# Altium schematic symbol library flatsat_platform_2.SchLib: 104 symbols (part 2 of 2)
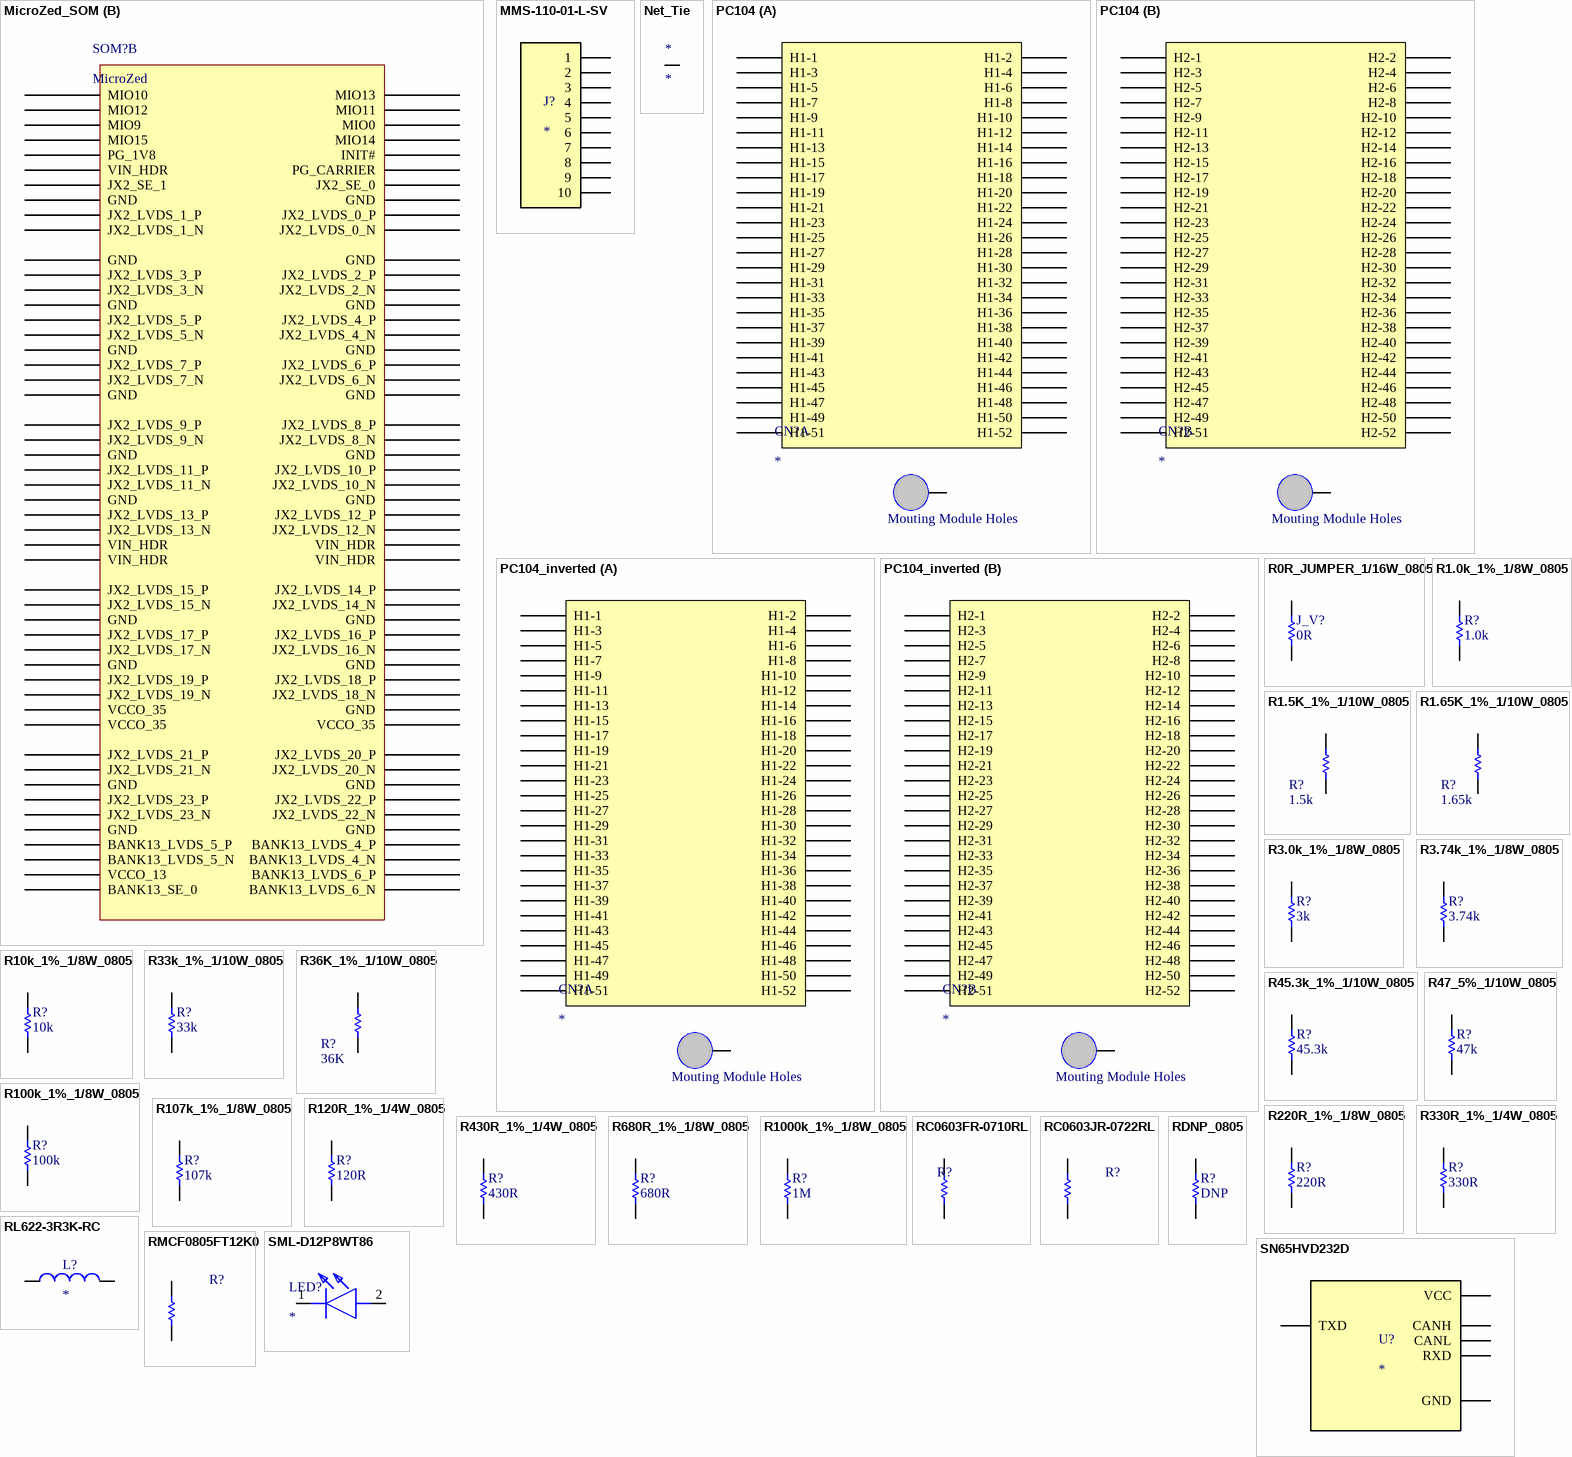
[diagram p4: symbols MicroZed_SOM to SN65HVD232D]

## RC0603JR-0722RL
designator R?, comment 22R  (value not drawn)
YAGEO - RC0603JR-0722RL - SMD Chip Resistor, 0603 [1608 Metric], 22 ohm, RC Series, 50 V, Thick Film, 100 mW; Tolerance: 5%; Temperature Coefficient: 100ppm/°C; Voltage Rating (DC): 50V; Power Rating: 100mW; Supplier 1: Digi-Key; Supplier Part Number 1: 311-22GRCT-ND; Manufacturer: Yageo; Stock 1: 2449692; Pricing 1: 1=0.1, 10=0.019, 100=0.0077, 1000=0.00347, 2500=0.00301 (USD); Case/Package: 0603; Number of Pins: 2; Case Code (Imperial): 0603; Case Code (Metric): 1608; Min Operating Temperature: -55°C; Max Operating Temperature: 155°C; Composition: Thick Film; Packaging: Tape and Reel; Voltage Rating: 50V; Termination: SMD/SMT; Military Standard: Not; Length: 1.6mm; Width: 0.8mm; Depth: 0.8mm; REACH SVHC: No SVHC; Lead Free: Lead Free; ComponentLink1URL: https://www.verical.com/server-webapp/html/getDatasheet?partID=493085&src-supplier=Verical; ComponentLink1Description: https://www.verical.com/server-webapp/html/getDatasheet?partID=493085&src-supplier=Verical; ComponentLink2URL: http://www.farnell.com/datasheets/1868787.pdf?src-supplier=Element14; ComponentLink2Description: http://www.farnell.com/datasheets/1868787.pdf?src-supplier=Element14; ComponentLink3URL: http://www.farnell.com/datasheets/443971.pdf?src-supplier=Element14; ComponentLink3Description: http://www.farnell.com/datasheets/443971.pdf?src-supplier=Element14; Supplier 2: Mouser; Supplier Part Number 2: 603-RC0603JR-0722RL; Stock 2: 139526; Pricing 2: 1=0.1, 10=0.015, 100=0.005, 1000=0.004, 5000=0.004, 10000=0.004 (USD); Manufacturer Part Number: RC0603JR-0722RL
footprint R0603_MD (Chip Resistor, Body 1.6x0.8mm, IPC Medium Density)
pins: 1, 2

## RDNP_0805
designator R?, comment DNP
RES DNP 0805; NCM: 8533.21.20
footprint 0805
pins: 1, 2

## RL622-3R3K-RC
designator L?
3.3ÂµH Unshielded Wirewound Inductor 5.5A 25mOhm Max Radial, Vertical Cylinder; Manufacturer Part Number: RL622-3R3K-RC; MF: Bourns; Price: None; Value: *; Package: Radial Bourns - J.W. Miller; Purchase-URL: https://pricing.snapeda.com/search/part/RL622-3R3K-RC/?ref=eda; SnapEDA_Link: https://www.snapeda.com/parts/RL622-3R3K-RC/Bourns/view-part/337281/?ref=snap; Check_prices: https://www.snapeda.com/parts/RL622-3R3K-RC/Bourns/view-part/337281/?ref=eda; Availability: Good
footprint RL622
pins: 1, 2

## RMCF0805FT12K0
designator R?, comment 12K  (value not drawn)
RES 12K OHM 1/8W 1% 0805; Manufacturer: Stackpole Electronics; Manufacturer Part Number: RMCF0805FT12K0; Power Rating: 125mW; Temperature Coefficient: 100ppm/°C; Supplier 1: Digi-Key; Supplier Part Number 1: RMCF0805FT12K0CT-ND; Stock 1: 30304; Pricing 1: 1=0.1, 10=0.026, 100=0.0104, 1000=0.00466, 2500=0.00405 (USD); Mount: Surface Mount; Case/Package: 0805; Case Code (Metric): 2012; Case Code (Imperial): 0805; Contact Plating: Tin,Matte; Min Operating Temperature: -55°C; Max Operating Temperature: 155°C; Packaging: Tape and Reel; Composition: Thick Film; Number of Terminations: 2; Max Power Dissipation: 125mW; Features: Automotive AEC-Q200; Length: 0.079inch; Height: 0.026inch; Width: 0.049inch; Radiation Hardening: No; Lead Free: Lead Free; ComponentLink1URL: https://www.seielect.com/catalog/SEI-RMCF_RMCP.pdf?src-supplier=Avnet; ComponentLink1Description: https://www.seielect.com/catalog/SEI-RMCF_RMCP.pdf?src-supplier=Avnet; ComponentLink2URL: https://www.seielect.com/Catalog/SEI-RMCF_RMCP.pdf?src-supplier=Digi-Key; ComponentLink2Description: https://www.seielect.com/Catalog/SEI-RMCF_RMCP.pdf?src-supplier=Digi-Key; ComponentLink3URL: https://www.seielect.com/catalog/SEI-Packaging.pdf?src-supplier=Digi-Key; ComponentLink3Description: https://www.seielect.com/catalog/SEI-Packaging.pdf?src-supplier=Digi-Key; ComponentLink4URL: http://seielect.com/Catalog/SEI-RMCF_RMCP.pdf?src-supplier=Future+Electronics; ComponentLink4Description: http://seielect.com/Catalog/SEI-RMCF_RMCP.pdf?src-supplier=Future+Electronics; ComponentLink5URL: http://components.arrow.com/part/dataview/40964023S7542466N1174?src-supplier=Arrow; ComponentLink5Description: http://components.arrow.com/part/dataview/40964023S7542466N1174?src-supplier=Arrow; Tolerance: 1%
footprint R0805_MD (Chip Resistor, Body 2.0x1.3mm, IPC Medium Density)
pins: 1, 2

## SML-D12P8WT86
designator LED?
LED; Manufacturer_Name: ROHM Semiconductor; Manufacturer_Part_Number: SML-D12P8WT86; Datasheet Link: https://datasheet.datasheetarchive.com/originals/distributors/Datasheets_SAMA/f235664866caa647598714bb71411137.pdf; Height: 1.5mm; Mouser Part Number: 755-SML-D12P8WT86; Mouser Price/Stock: https://www.mouser.co.uk/ProductDetail/ROHM-Semiconductor/SML-D12P8WT86?qs=4kLU8WoGk0t8lt%252ByV67uRQ%3D%3D; Arrow Part Number: SML-D12P8WT86; Arrow Price/Stock: https://www.arrow.com/en/products/sml-d12p8wt86/rohm-semiconductor
footprint LEDM1620X150N
pins: 1 K, 2 A

## SN65HVD232D
designator U?
3.3 V CAN Transceiver; Manufacturer Part Number: SN65HVD232D; MF: Texas Instruments; Availability: Unavailable; Package: SOIC-8 Texas Instruments; DigiKey-Purchase-URL: https://snapeda.com/shop?store=DigiKey&id=230614; SnapEDA_Link: https://www.snapeda.com/parts/SN65HVD232D/Texas%20Instruments/view-part/230614/?ref=snap; Mouser-Purchase-URL: https://snapeda.com/shop?store=Mouser&id=230614; Value: *; Price: None; Texas_Instruments-Purchase-URL: https://snapeda.com/shop?store=Texas+Instruments&id=230614
footprint SOIC127P599X175-8N
footprint SOIC127P599X175-8N
pins: 1 TXD (power), 2 GND (power), 3 VCC (power), 4 RXD (power), 6 CANL (power), 7 CANH (power)

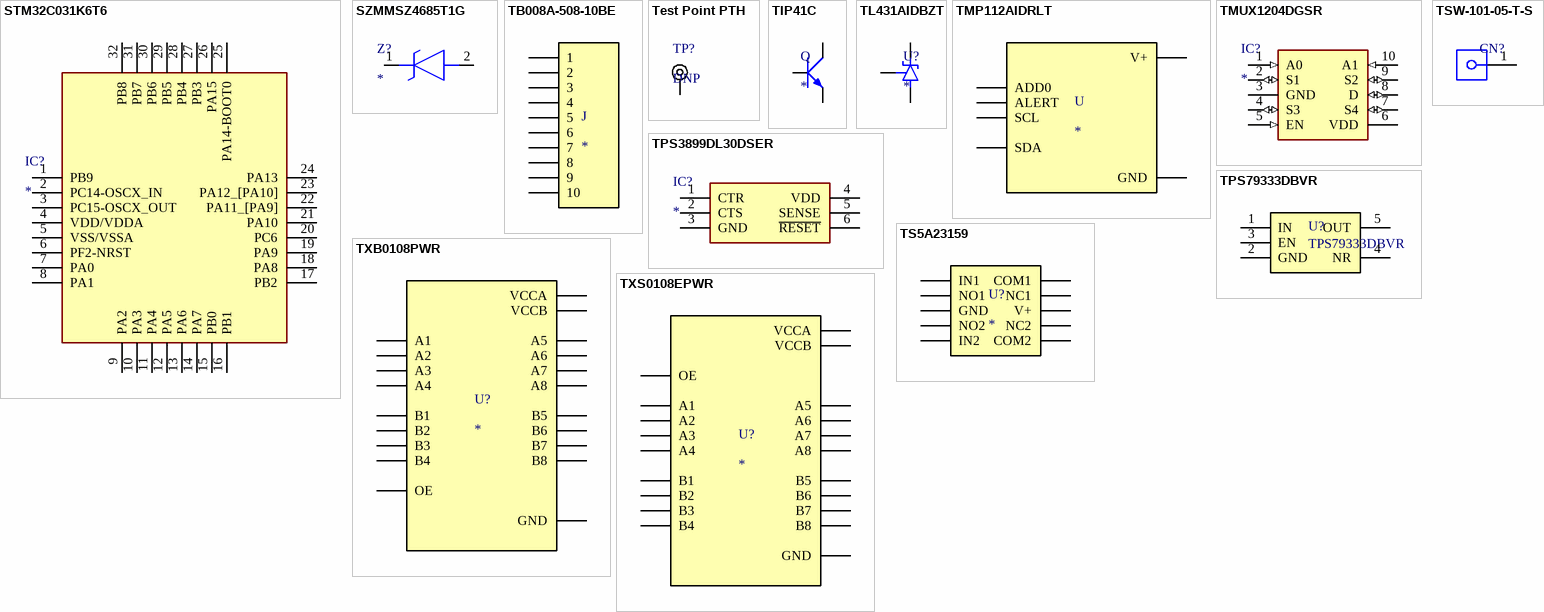
[diagram p3: symbols STM32C031K6T6 to TXS0108EPWR]

## STM32C031K6T6
designator IC?
Integrated Circuit; Manufacturer_Name: STMicroelectronics; Manufacturer_Part_Number: STM32C031K6T6; Datasheet Link: https://www.st.com/resource/en/datasheet/stm32c031c4.pdf; Height: 1.6mm; Mouser Part Number: 511-STM32C031K6T6; Mouser Price/Stock: https://www.mouser.co.uk/ProductDetail/STMicroelectronics/STM32C031K6T6?qs=IPgv5n7u5QYX61LfvY0BQA%3D%3D
footprint QFP80P900X900X160-32N
pins: 1 PB9, 2 PC14-OSCX_IN, 3 PC15-OSCX_OUT, 4 VDD/VDDA, 5 VSS/VSSA, 6 PF2-NRST, 7 PA0, 8 PA1, 9 PA2, 10 PA3, 11 PA4, 12 PA5, 13 PA6, 14 PA7, 15 PB0, 16 PB1, 17 PB2, 18 PA8, 19 PA9, 20 PC6, 21 PA10, 22 PA11_[PA9], 23 PA12_[PA10], 24 PA13, 25 PA14-BOOT0, 26 PA15, 27 PB3, 28 PB4, 29 PB5, 30 PB6, 31 PB7, 32 PB8

## SZMMSZ4685T1G
designator Z?
Zener Diode; Manufacturer_Name: onsemi; Manufacturer_Part_Number: SZMMSZ4685T1G; Datasheet Link: https://www.onsemi.com/pub/Collateral/MMSZ4678T1-D.PDF; Height: 1.35mm; Mouser Part Number: 863-SZMMSZ4685T1G; Mouser Price/Stock: https://www.mouser.co.uk/ProductDetail/onsemi/SZMMSZ4685T1G?qs=PJJcWtbOkNUeP85eYvIOSw%3D%3D; Arrow Part Number: SZMMSZ4685T1G; Arrow Price/Stock: https://www.arrow.com/en/products/szmmsz4685t1g/on-semiconductor
footprint SOD3716X135N
pins: 1 K, 2 A

## TB008A-508-10BE
designator J
2~24 Poles, Screw Type, 45Â°, 5.08 Pitch, 24~12 (AWG), Terminal Block Connector; Manufacturer Part Number: TB008A-508-10BE; MF: CUI Devices; Package: None; Value: *; Price: None; SnapEDA_Link: https://www.snapeda.com/parts/TB008A-508-10BE/CUI%20Devices/view-part/3591367/?ref=snap; Availability: Unavailable
footprint CUI_TB008A-508-10BE
footprint CUI_TB008A-508-10BE
pins: 1, 2, 3, 4, 5, 6, 7, 8, 9, 10

## Test Point PTH
designator TP?, comment DNP  (no BOM)
TEST POINT PAD
footprint TEST POINT PTH
pins: 1

## TIP41C
designator Q
Bipolar _BJT_ Transistor NPN 100V 6A 3MHz 2W Through Hole TO-220-3; Manufacturer Part Number: TIP41C; MF: Central Semiconductor; SnapEDA_Link: https://www.snapeda.com/parts/TIP41C/Central%20Semiconductor%20Corp/view-part/2759871/?ref=snap; Price: None; Availability: Unavailable; Package: TO-220-3 Central Semiconductor; Value: *
footprint TO220AV
pins: B, B, C, E

## TL431AIDBZT
designator U?
Shunt Voltage Reference IC 36V Â±1% SOT-23-3; Manufacturer Part Number: TL431AIDBZT; MF: Texas Instruments; SnapEDA_Link: https://www.snapeda.com/parts/TL431AIDBZT/Texas%20Instruments/view-part/277644/?ref=snap; Package: SOT-23-3 Texas Instruments; Price: None; Value: *; Availability: Unavailable
footprint SOT95P237X112-3N
footprint SOT95P237X112-3N
pins: 1 CATHODE, 2 REF, 3 ANODE

## TMP112AIDRLT
designator U
0.5C 1.4V to 3.6V digital temperature sensor with I2C/SMBus in 2.56mm2 package 6-SOT-5X3 -40 to 125; Manufacturer Part Number: TMP112AIDRLT; MF: Texas Instruments; Texas_Instruments-Purchase-URL: https://snapeda.com/shop?store=Texas+Instruments&id=237309; Price: None; Mouser-Purchase-URL: https://snapeda.com/shop?store=Mouser&id=237309; Availability: Good; Package: SOT-5X3-6 Texas Instruments; SnapEDA_Link: https://www.snapeda.com/parts/TMP112AIDRLT/Texas%20Instruments/view-part/237309/?ref=snap; DigiKey-Purchase-URL: https://snapeda.com/shop?store=DigiKey&id=237309; Value: *
footprint SOT50P160X60-6N
footprint SOT50P160X60-6N
pins: 1 SCL (power), 2 GND (power), 3 ALERT (power), 4 ADD0 (power), 5 V+ (power), 6 SDA (power)

## TMUX1204DGSR
designator IC?
Integrated Circuit; Manufacturer_Name: Texas Instruments; Manufacturer_Part_Number: TMUX1204DGSR; Datasheet Link: http://www.ti.com/lit/gpn/TMUX1204; Height: 1.1mm; Mouser Part Number: 595-TMUX1204DGSR; Mouser Price/Stock: https://www.mouser.co.uk/ProductDetail/Texas-Instruments/TMUX1204DGSR?qs=EBDBlbfErPw42Q0DdvAwUg%3D%3D; Arrow Part Number: TMUX1204DGSR; Arrow Price/Stock: https://www.arrow.com/en/products/tmux1204dgsr/texas-instruments?utm_currency=USD&region=nac
footprint SOP50P490X110-10N
pins: 1 A0 (in), 2 S1 (io), 3 GND (power), 4 S3 (io), 5 EN (in), 6 VDD (power), 7 S4 (io), 8 D (io), 9 S2 (io), 10 A1 (in)

## TPS3899DL30DSER
designator IC?
Integrated Circuit; Manufacturer_Name: Texas Instruments; Manufacturer_Part_Number: TPS3899DL30DSER; Datasheet Link: https://www.ti.com/lit/ds/symlink/tps3899.pdf?ts=1744754683287&ref_url=https%253A%252F%252Fwww.mouser.com%252F; Height: 0.8mm; Mouser Part Number: 595-TPS3899DL30DSER; Mouser Price/Stock: https://www.mouser.co.uk/ProductDetail/Texas-Instruments/TPS3899DL30DSER?qs=pBJMDPsKWf3Gvj4NR5zaDA%3D%3D
footprint TPS3899DL30DSER
pins: 1 CTR, 2 CTS, 3 GND, 4 VDD, 5 SENSE, 6 ~{RESET}

## TPS79333DBVR
designator U?
TEXAS INSTRUMENTS - TPS79333DBVR - IC, V REG, LINEAR, 0.2A, SOT-23-5; Number of Outputs: 1; Output Voltage: 3.3V; Max Power Dissipation: 560mW; Max Output Current: 200mA; Max Input Voltage: 5.5V; Min Input Voltage: 2.7V; Polarity: Positive; Quiescent Current: 200uA; Accuracy: 2%; Output Type: Fixed; Dropout Voltage: 102mV; Min Current Limit: 285mA; Input Bias Current: 170uA; Supplier 1: Digi-Key; Supplier Part Number 1: 296-12961-1-ND; Manufacturer: Texas Instruments; Stock 1: 21565; Pricing 1: 1=0.73, 10=0.64, 25=0.6016, 100=0.4559, 250=0.388, 500=0.3686, 1000=0.2813 (USD); Case/Package: SOT-23; Number of Pins: 5; Min Operating Temperature: -40°C; Max Operating Temperature: 125°C; Output Current: 200mA; Packaging: Tape and Reel; Package Quantity: 1; Number of Regulators: 1; Min Output Voltage: 3.3V; Power Dissipation: 560mW; Max Output Voltage: 3.3V; Output Voltage Accuracy: 2%; Nominal Output Voltage: 3.3V; Power Rating: 560mW; Max Supply Voltage: 5.5V; Min Supply Voltage: 2.7V; Termination: SMD/SMT; Current Rating: 200mA; Length: 2.9mm; Height: 1.15mm; Width: 1.6mm; Radiation Hardening: No; Lead Free: Lead Free; REACH SVHC: No SVHC; ComponentLink1URL: http://www.ti.com/general/docs/lit/getliterature.tsp?genericPartNumber=TPS793&amp;&amp;fileType=pdf&src-supplier=Farnell; ComponentLink1Description: http://www.ti.com/general/docs/lit/getliterature.tsp?genericPartNumber=TPS793&amp;&amp;fileType=pdf&src-supplier=Farnell; ComponentLink2URL: http://www.jameco.com/Jameco/Products/ProdDS/1123416.pdf?src-supplier=Jameco; ComponentLink2Description: http://www.jameco.com/Jameco/Products/ProdDS/1123416.pdf?src-supplier=Jameco; Supplier 2: Mouser; Supplier Part Number 2: 595-TPS79333DBVR; Stock 2: 31707; Pricing 2: 1=0.72, 10=0.6, 100=0.379, 1000=0.289, 2000=0.282, 3000=0.252, 9000=0.242, 48000=0.233 (USD); Manufacturer Part Number: TPS79333DBVR
footprint SOT23-5
pins: 1 IN, 2 GND, 3 EN, 4 NR, 5 OUT

## TS5A23159
designator U?
Texas Instruments TS5A23159 Dual SPDT Analog Switch  Datasheet: http://www.ti.com/lit/ds/scds201g/scds201g.pdf; Package: None; Price: None; Value: *; Manufacturer Part Number: TS5A23159; Availability: Unavailable
footprint 10MSOP
footprint SOP50P490X110-10N
pins: 1 IN1 (power), 2 NO1 (power), 3 GND (power), 4 NO2 (power), 5 IN2 (power), 6 COM2 (power), 7 NC2 (power), 8 V+ (power), 9 NC1 (power), 10 COM1 (power)

## TSW-101-05-T-S
designator CN?  (value not drawn)
CONN HEADER 1POS .100" SNGL TIN; Manufacturer: Samtec Inc; N of Positions: 2; Pitch: 2.54mm; Mount Type: PTH; Supplier 1: Farnell; Supplier Part Number 1: 1925384; Supplier 2: Newark; Supplier Part Number 2: 84T5043; Supplier 3: Digi-Key; Supplier Part Number 3: SAM1019-02-ND; Supplier 4: Arrow; Supplier Part Number 4: T9xGEsh_w6igb0LY4EP_nwsWhIkhCEmR3qLYTGm2XzA; Supplier 5: Digi-Key; Supplier Part Number 5: SAM1019-01-ND; Supplier 6: Newark; Supplier Part Number 6: 69X6269; Manufacturer Part Number: TSW-101-05-T-S
footprint PIN BAR 1 2.54mm 180 GRAUS - Hide (HEADER 1 2.54mm 180 GRAUS)
pins: 1

## TXB0108PWR
designator U?
8-Bit Bidirectional Voltage-Level Shifter with Auto Direction Sensing and +/-15-kV ESD Protect 20-TSSOP -40 to 85; Manufacturer Part Number: TXB0108PWR; MF: Texas Instruments; SnapEDA_Link: https://www.snapeda.com/parts/TXB0108PWR/Texas%20Instruments/view-part/45111/?ref=snap; Digi-Key_Part_Number: 296-21527-1-ND; Texas_Instruments-Purchase-URL: https://snapeda.com/shop?store=Texas+Instruments&id=45111; Package: TSSOP-20 Texas Instruments; Value: *
footprint SOP65P640X120-20N
footprint SOP65P640X120-20N
pins: 1 A1 (power), 2 VCCA (power), 3 A2 (power), 4 A3 (power), 5 A4 (power), 6 A5 (power), 7 A6 (power), 8 A7 (power), 9 A8 (power), 10 OE (power), 11 GND (power), 12 B8 (power), 13 B7 (power), 14 B6 (power), 15 B5 (power), 16 B4 (power), 17 B3 (power), 18 B2 (power), 19 VCCB (power), 20 B1 (power)

## TXS0108EPWR
designator U?
8-Bit Bidirectional Voltage-Level Shifter For Open-Drain And Push-Pull Application; Manufacturer Part Number: TXS0108EPWR; MF: Texas Instruments; DigiKey-Purchase-URL: https://snapeda.com/shop?store=DigiKey&id=105750; Value: *; Texas_Instruments-Purchase-URL: https://snapeda.com/shop?store=Texas+Instruments&id=105750; Availability: Unavailable; Package: TSSOP-20 Texas Instruments; Mouser-Purchase-URL: https://snapeda.com/shop?store=Mouser&id=105750; SnapEDA_Link: https://www.snapeda.com/parts/TXS0108EPWR/Texas%20Instruments/view-part/105750/?ref=snap; Price: None
footprint SOP65P640X120-20N
footprint SOP65P640X120-20N
pins: 1 A1 (power), 2 VCCA (power), 3 A2 (power), 4 A3 (power), 5 A4 (power), 6 A5 (power), 7 A6 (power), 8 A7 (power), 9 A8 (power), 10 OE (power), 11 GND (power), 12 B8 (power), 13 B7 (power), 14 B6 (power), 15 B5 (power), 16 B4 (power), 17 B3 (power), 18 B2 (power), 19 VCCB (power), 20 B1 (power)